# Altium footprint library 5-MK60DN512VLL10核心板.PcbLib: 19 footprints (part 1 of 2)
Each footprint in its own frame and in the unit in brackets; x right, y up, seen from the top. Pads: shape width x height; smd on the part's side, far side on the other; paste and mask are expansions set on the pad; w line width, h text height; cw(c..) or ccw(c..) is an arc to the next point about the centre after c.
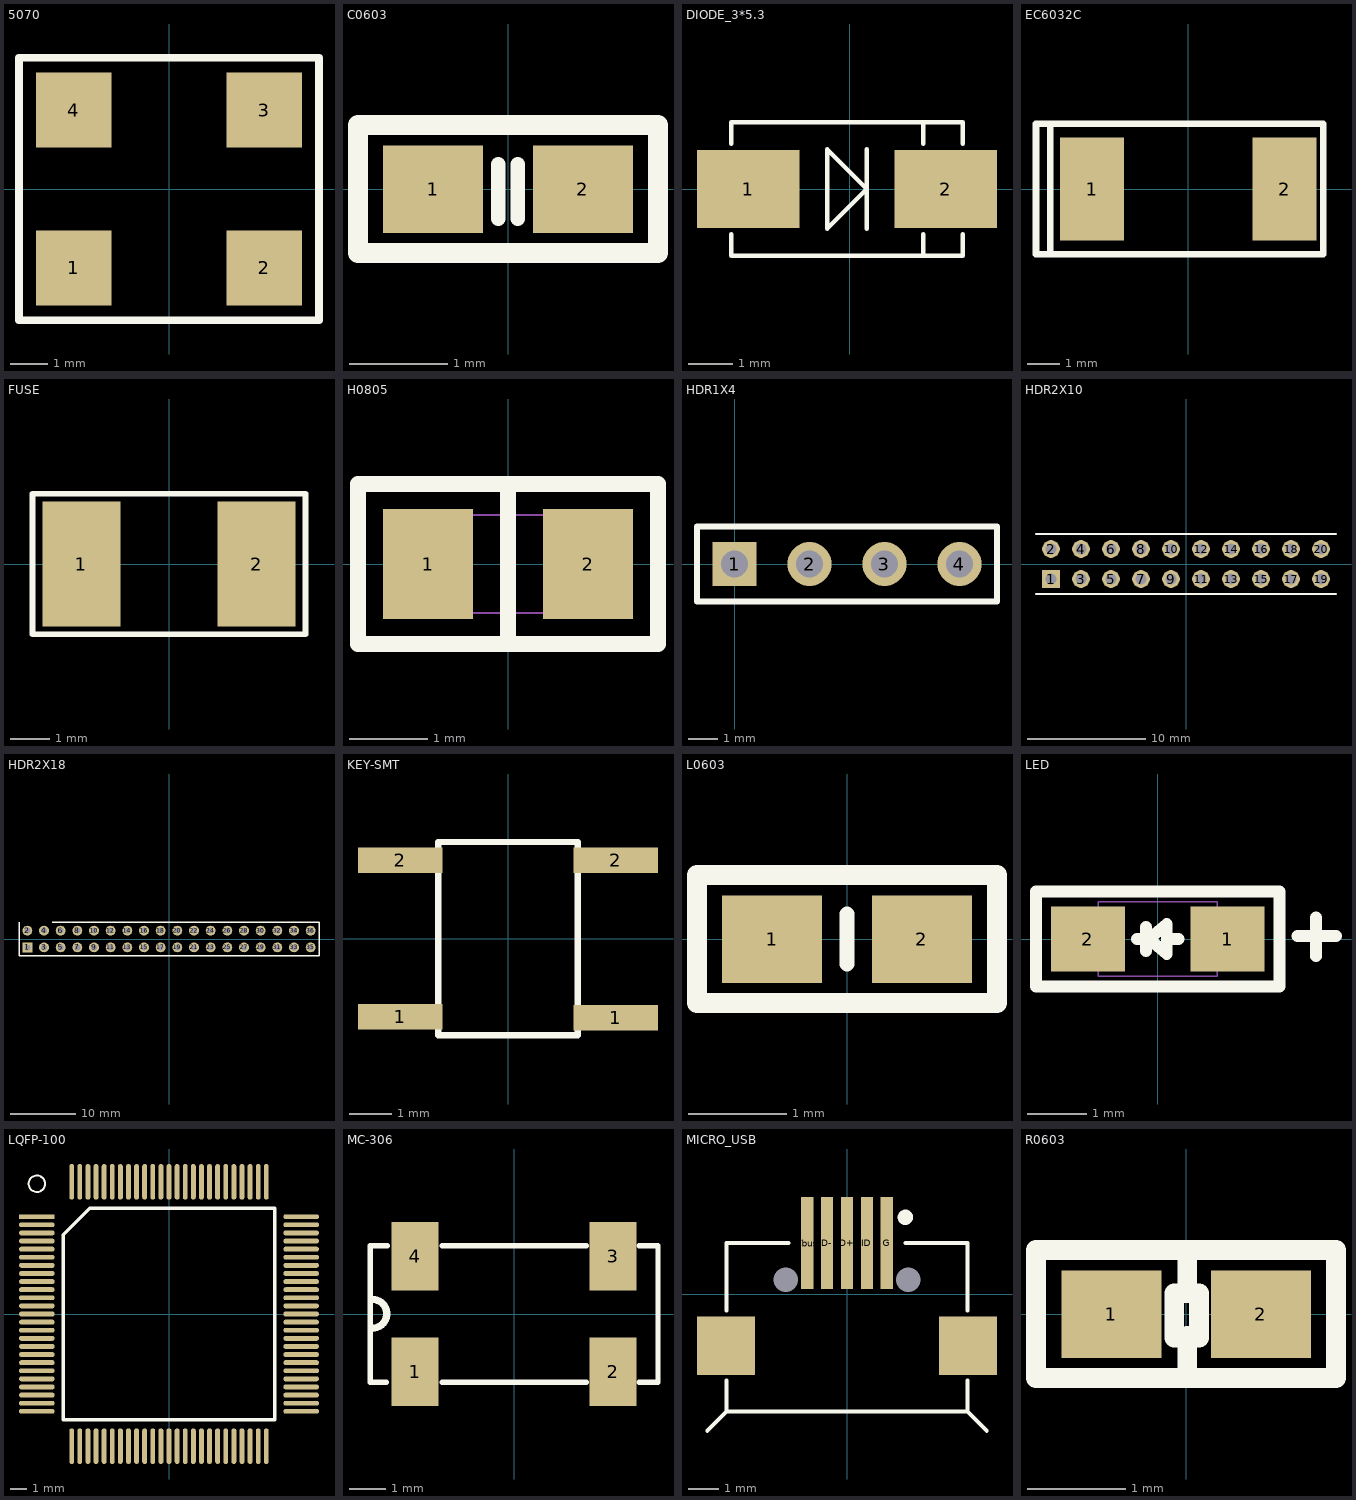
[diagram p0: the footprints below, top view; thin cyan lines are the x and y axes]

## 5070 [mm]
pads (4):
  rect 2x2 smd: 1(-2.54,-2.1) 2(2.54,-2.1) 3(2.54,2.1) 4(-2.54,2.1)
Top Overlay:
  lines w0.203: -4,-3.5 4,-3.5 4,-1.968 4,3.5 -4,3.5 -4,-3.5

## C0603 [mil]
height 170.08
pads (2):
  rect 40x35 smd: 1(-29.92,0) 2(29.92,0)
Top Overlay:
  lines w5.91: -3.94,-11.81 -3.94,9.84 ; 3.94,-11.81 3.94,9.84
  lines w7.87: -60,-25.59 60,-25.59 60,25.59 -60,25.59 -60,-25.59

## DIODE_3*5.3 [mm]
height 5.72
pads (2):
  rect 2.3x1.75 smd: 1(-2.286,0) 2(2.159,0)
Top Overlay:
  lines w0.1: -2.667,-1.016 -2.667,-1.5 2.54,-1.5 2.54,-1.016 ; -2.667,1.016 -2.667,1.5 2.54,1.5 2.54,1.016 ; 0.381,-0.889 0.381,0.889 ; 1.651,-1.5 1.651,-1.016 ; 1.651,1.016 1.651,1.5 ; -0.508,-0.889 -0.508,0.889 0.381,0 -0.508,-0.889

## EC6032C [mm]
pads (2):
  rect 2x3.2 smd: 1(-3,0) 2(3,0)
Top Overlay:
  lines w0.203: -4.75,-2.032 -4.75,2.032 ; -4.674,-2.032 -4.166,-2.032 4.2,-2.032 4.2,2.032 -4.166,2.032 -4.674,2.032 ; -4.3,-2.032 -4.3,2.032

## FUSE [mm]
height 1.99
pads (2):
  rect 2x3.2 smd: 1(-2.25,0) 2(2.25,0)
Top Overlay:
  lines w0.152: -3.5,-1.803 -3.5,1.803 3.5,1.803 3.5,-1.803 -3.5,-1.803

## H0805 [mil]
height 78.35
pads (2):
  rect 45x55 smd: 1(-40,0) 2(40,0)
Top Overlay:
  lines w7.87: 0,-40 0,-17.72 0,40 ; -75,-40 75,-40 75,40 -75,40 -75,-40
Mechanical 8:
  lines w1: -39.37,-24.61 39.37,-24.61 39.37,24.61 -39.37,24.61 -39.37,-24.61

## HDR1X4 [mm]
height 4.32
pads (4):
  rect 1.5x1.5 hole 0.9: 1(0,0)
  round 1.5 hole 0.9: 2(2.54,0) 3(5.08,0) 4(7.62,0)
Top Overlay:
  lines w0.2: -1.27,-1.27 -1.27,1.27 8.89,1.27 8.89,-1.27 -1.27,-1.27

## HDR2X10 [mm]
pads (20):
  rect 1.5x1.5 hole 0.9: 1(-11.43,-1.27)
  round 1.5 hole 0.9: 2(-11.43,1.27) 3(-8.89,-1.27) 4(-8.89,1.27) 5(-6.35,-1.27) 6(-6.35,1.27) 7(-3.81,-1.27) 8(-3.81,1.27) 9(-1.27,-1.27) 10(-1.27,1.27) 11(1.27,-1.27) 12(1.27,1.27) 13(3.81,-1.27) 14(3.81,1.27) 15(6.35,-1.27) 16(6.35,1.27) 17(8.89,-1.27) 18(8.89,1.27) 19(11.43,-1.27) 20(11.43,1.27)
Top Overlay:
  lines w0.2: -12.7,-2.54 -10.795,-2.54 12.7,-2.54 ; -12.7,2.54 -10.795,2.54 12.7,2.54

## HDR2X18 [mm]
pads (36):
  rect 1.5x1.5 hole 0.9: 1(-21.59,-1.27)
  round 1.5 hole 0.9: 2(-21.59,1.27) 3(-19.05,-1.27) 4(-19.05,1.27) 5(-16.51,-1.27) 6(-16.51,1.27) 7(-13.97,-1.27) 8(-13.97,1.27) 9(-11.43,-1.27) 10(-11.43,1.27) 11(-8.89,-1.27) 12(-8.89,1.27) 13(-6.35,-1.27) 14(-6.35,1.27) 15(-3.81,-1.27) 16(-3.81,1.27) 17(-1.27,-1.27) 18(-1.27,1.27) 19(1.27,-1.27) 20(1.27,1.27) 21(3.81,-1.27) 22(3.81,1.27) 23(6.35,-1.27) 24(6.35,1.27) 25(8.89,-1.27) 26(8.89,1.27) 27(11.43,-1.27) 28(11.43,1.27) 29(13.97,-1.27) 30(13.97,1.27) 31(16.51,-1.27) 32(16.51,1.27) 33(19.05,-1.27) 34(19.05,1.27) 35(21.59,-1.27) 36(21.59,1.27)
Top Overlay:
  lines w0.2: -22.86,-2.54 -22.86,2.54 ; -22.835,-2.54 22.86,-2.54 22.86,2.54 -17.78,2.54

## KEY-SMT [mm]
height 4.32
pads (4):
  rect 2x0.6 smd: 1(-2.55,-1.85) 1(2.55,-1.87) 2(-2.55,1.85) 2(2.55,1.85)
Top Overlay:
  lines w0.152: -1.651,-2.286 1.651,-2.286 1.651,2.286 -1.651,2.286 -1.651,-2.286

## L0603 [mil]
height 170.08
pads (2):
  rect 40x35 smd: 1(-29.92,0) 2(29.92,0)
Top Overlay:
  lines w5.91: 0,-10 0,10
  lines w7.87: -60,-25.59 60,-25.59 60,25.59 -60,25.59 -60,-25.59

## LED [mil]
height 170.08
pads (2):
  rect 49x43 smd: 1(46.26,0) 2(-46.26,0)
Top Overlay:
  lines w7.87: -13.78,0 -5.91,0 ; -7.87,-7.87 -7.87,7.87 ; 5.91,0 13.78,0 ; 92.52,1.97 118.11,1.97 ; 104.75,-11.44 104.75,14.15 ; -5.91,0 5.91,-9.84 5.91,9.84 -5.91,0 ; -80.71,-31.5 -80.71,31.5 80.71,31.5 80.71,-31.5 -80.71,-31.5
Mechanical 8:
  lines w1: -39.37,-24.61 -39.37,24.61 39.37,24.61 39.37,-24.61 -39.37,-24.61

## LQFP-100 [mm]
height 4.32
pads (100):
  rect 2.2x0.3 smd: 1(-8.15,6)
  oval 2.2x0.3 smd: 2(-8.15,5.5) 3(-8.15,5) 4(-8.15,4.5) 5(-8.15,4) 6(-8.15,3.5) 7(-8.15,3) 8(-8.15,2.5) 9(-8.15,2) 10(-8.15,1.5) 11(-8.15,1) 12(-8.15,0.5) 13(-8.15,0) 14(-8.15,-0.5) 15(-8.15,-1) 16(-8.15,-1.5) 17(-8.15,-2) 18(-8.15,-2.5) 19(-8.15,-3) 20(-8.15,-3.5) 21(-8.15,-4) 22(-8.15,-4.5) 23(-8.15,-5) 24(-8.15,-5.5) 25(-8.15,-6) 51(8.15,-6) 52(8.15,-5.5) 53(8.15,-5) 54(8.15,-4.5) 55(8.15,-4) 56(8.15,-3.5) 57(8.15,-3) 58(8.15,-2.5) 59(8.15,-2) 60(8.15,-1.5) 61(8.15,-1) 62(8.15,-0.5) 63(8.15,0) 64(8.15,0.5) 65(8.15,1) 66(8.15,1.5) 67(8.15,2) 68(8.15,2.5) 69(8.15,3) 70(8.15,3.5) 71(8.15,4) 72(8.15,4.5) 73(8.15,5) 74(8.15,5.5) 75(8.15,6)
  oval 0.3x2.2 smd: 26(-6,-8.15) 27(-5.5,-8.15) 28(-5,-8.15) 29(-4.5,-8.15) 30(-4,-8.15) 31(-3.5,-8.15) 32(-3,-8.15) 33(-2.5,-8.15) 34(-2,-8.15) 35(-1.5,-8.15) 36(-1,-8.15) 37(-0.5,-8.15) 38(0,-8.15) 39(0.5,-8.15) 40(1,-8.15) 41(1.5,-8.15) 42(2,-8.15) 43(2.5,-8.15) 44(3,-8.15) 45(3.5,-8.15) 46(4,-8.15) 47(4.5,-8.15) 48(5,-8.15) 49(5.5,-8.15) 50(6,-8.15) 76(6,8.15) 77(5.5,8.15) 78(5,8.15) 79(4.5,8.15) 80(4,8.15) 81(3.5,8.15) 82(3,8.15) 83(2.5,8.15) 84(2,8.15) 85(1.5,8.15) 86(1,8.15) 87(0.5,8.15) 88(0,8.15) 89(-0.5,8.15) 90(-1,8.15) 91(-1.5,8.15) 92(-2,8.15) 93(-2.5,8.15) 94(-3,8.15) 95(-3.5,8.15) 96(-4,8.15) 97(-4.5,8.15) 98(-5,8.15) 99(-5.5,8.15) 100(-6,8.15)
Top Overlay:
  circle w0.127: c-8.15,8.032 r0.508
  lines w0.2: -6.515,-6.515 -6.515,4.88 -4.88,6.515 6.515,6.515 6.515,-6.515 -6.515,-6.515

## MC-306 [mm]
height 1.6
pads (4):
  rect 1.3x1.9 smd: 1(-2.75,-1.6) 2(2.75,-1.6) 3(2.75,1.6) 4(-2.75,1.6)
Top Overlay:
  lines w0.152: -3.556,-1.9 -4,-1.9 -4,1.9 -3.531,1.9 ; -2,-1.9 2,-1.9 ; -2,1.9 2,1.9 ; 3.48,-1.9 4,-1.9 4,1.9 3.48,1.9
  lines w0.2: -3.937,-0.394 ccw(c-3.937,0.006) -3.937,0.406

## MICRO_USB [mm]
pads (9):
  rect 0.4x3 smd: D+(0,1.679) D-(-0.65,1.679) G(1.3,1.679) ID(0.65,1.679) Vbus(-1.3,1.679)
  round 0 hole 0.8 unplated: MH1(2,0.471) MH2(-2,0.471)
  rect 1.9x1.9 smd: ""(-3.95,-1.679) ""(3.95,-1.679)
Top Overlay:
  circle w0.25: c1.905,2.519 r0.125
  lines w0.127: -4.567,-4.459 -3.937,-3.829 -3.937,-2.813 ; -3.937,-0.527 -3.937,1.679 ; -3.9,-3.829 3.9,-3.829 ; -3.9,1.679 -1.905,1.679 ; 1.905,1.679 3.9,1.679 ; 3.937,-2.813 3.937,-3.829 4.567,-4.459 ; 3.937,-0.527 3.937,1.679

## R0603 [mil]
pads (2):
  rect 40x35 smd: 1(-29.92,0) 2(29.92,0)
Top Overlay:
  lines w7.87: 0.39,-21.65 0.39,-8.66 ; 0.39,9.45 0.39,21.65 ; -60.07,-25.59 -60.07,25.59 59.93,25.59 59.93,-25.59 -60.07,-25.59 ; -4.72,-9.45 5.12,-9.45 5.12,8.27 -4.72,8.27 -4.72,-9.45